# Altium schematic symbol library WE-LQS.SchLib: 1 symbol
Pins are listed as number, name and electrical type; pins without a type are passive.

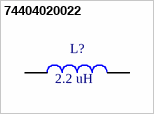
[diagram p0: symbol 74404020022]

## 74404020022
designator L?  value 2.2 uH  (hidden comment: 74404020022)
FIXED IND 2.2UH 960MA 220 MOHM; Manufacturer: Wurth Elektronik; RatedCurrent: 0.96 A; PublishedDate: Nov. 2016; ComponentLink1Description: Manufacturer; ComponentLink1URL: http://www.we-online.de; ComponentLink2Description: Datasheet; ComponentLink2URL: http://katalog.we-online.de/pbs/datasheet/74404020022.pdf; Manufacturer Part Number: 74404020022; Size: 2010
footprint WE-LQS_2010
pins: 1, 2